# Altium footprint library MLACHQ_S.PCBLIB: 155 footprints (part 5 of 10)
Each footprint in its own frame and in the unit in brackets; x right, y up, seen from the top. Pads: shape width x height; smd on the part's side, far side on the other; paste and mask are expansions set on the pad; w line width, h text height; cw(c..) or ccw(c..) is an arc to the next point about the centre after c.
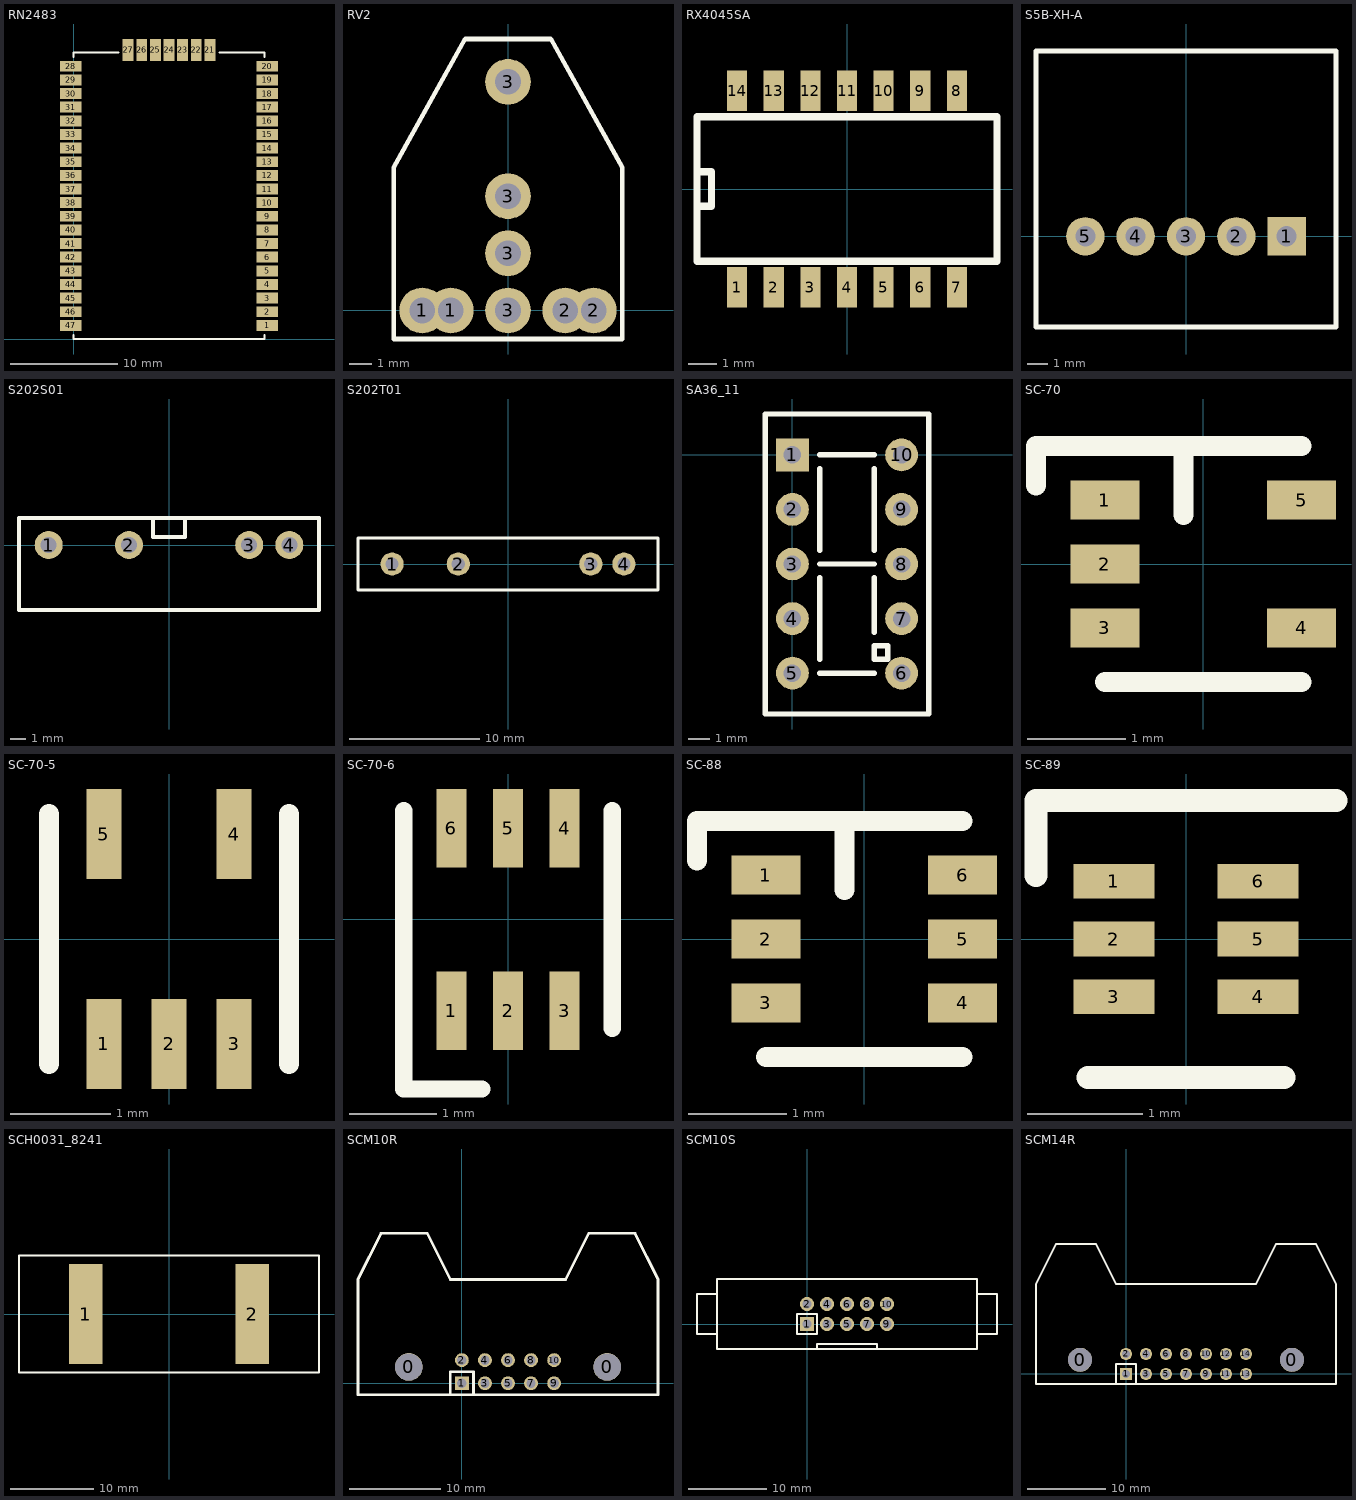
[diagram p4: the footprints below, top view; thin cyan lines are the x and y axes]

## RN2483 [mil]
pads (47):
  rect 80x40 smd mask+3.94: 1(710,50) 2(710,100) 3(710,150) 4(710,200) 5(710,250) 6(710,300) 7(710,350) 8(710,400) 9(710,450) 10(710,500) 11(710,550) 12(710,600) 13(710,650) 14(710,700) 15(710,750) 16(710,800) 17(710,850) 18(710,900) 19(710,950) 20(710,1000) 28(-10,1000) 29(-10,950) 30(-10,900) 31(-10,850) 32(-10,800) 33(-10,750) 34(-10,700) 35(-10,650) 36(-10,600) 37(-10,550) 38(-10,500) 39(-10,450) 40(-10,400) 41(-10,350) 42(-10,300) 43(-10,250) 44(-10,200) 45(-10,150) 46(-10,100) 47(-10,50)
  rect 40x80 smd mask+3.94: 21(500,1060) 22(450,1060) 23(400,1060) 24(350,1060) 25(300,1060) 26(250,1060) 27(200,1060)
TopOverlay:
  lines w7.87: 0,15 0,0 700,0 700,15 ; 0,1035 0,1050 165,1050 ; 535,1050 700,1050 700,1035
3D body: height 131.5, standoff 3.94, extent 55.12,25.59 643.7,994.09
3D body: height 31.5, standoff 0, extent 0,0 700,1050

## RV2 [mil]
pads (8):
  round 80 hole 45: 1(-150,0) 1(-100,0) 2(100,0) 2(150,0) 3(0,0) 3(0,100) 3(0,200) 3(0,400)
TopOverlay:
  lines w8: -200,-50 -200,250 -75,475 75,475 200,250 200,-50 -200,-50

## RX4045SA [mm]
pads (14):
  rect 0.7x1.4 smd: 1(-3.81,-3.4) 2(-2.54,-3.4) 3(-1.27,-3.4) 4(0,-3.4) 5(1.27,-3.4) 6(2.54,-3.4) 7(3.81,-3.4) 8(3.81,3.4) 9(2.54,3.4) 10(1.27,3.4) 11(0,3.4) 12(-1.27,3.4) 13(-2.54,3.4) 14(-3.81,3.4)
TopOverlay:
  lines w0.254: -5.2,-0.6 -4.7,-0.6 -4.7,0.6 -5.2,0.6 ; -5.2,-2.5 5.2,-2.5 5.2,2.5 -5.2,2.5 -5.2,-2.5

## S5B-XH-A [mm]
pads (5):
  rect 1.9x1.9 hole 1: 1(5,0)
  round 1.9 hole 1: 2(2.5,0) 3(0,0) 4(-2.5,0) 5(-5,0)
TopOverlay:
  lines w0.25: -7.45,-4.5 -7.45,9.2 ; -7.45,-4.5 7.45,-4.5 7.45,9.2 -7.45,9.2 ; -7.45,-4.5 -7.45,9.2
3D body: height 0.2, standoff 0, extent -7.45,0.5 7.45,9.2
3D body: height 6.1, standoff 5.9, extent -7.45,0.5 7.45,9.2
3D body: height 6.1, standoff 3.8, extent 6.8,0.5 7.45,9.2
3D body: height 6.1, standoff 3.8, extent -7.45,0.5 -6.8,9.2
3D body: height 6.1, standoff 0, extent -6.8,0.5 6.8,1.35
3D body: height 3, standoff -2, extent -0.35,-0.35 0.35,0.35
3D body: height 3, standoff 2.3, extent -0.35,-0.35 0.35,8.6
3D body: height 3, standoff 2.3, extent -2.85,-0.35 -2.15,8.6
3D body: height 3, standoff -2, extent -2.85,-0.35 -2.15,0.35
3D body: height 3, standoff 2.3, extent -5.35,-0.35 -4.65,8.6
3D body: height 3, standoff -2, extent -5.35,-0.35 -4.65,0.35
3D body: height 3, standoff 2.3, extent 2.15,-0.35 2.85,8.6
3D body: height 3, standoff -2, extent 2.15,-0.35 2.85,0.35
3D body: height 3, standoff 2.3, extent 4.65,-0.35 5.35,8.6
3D body: height 3, standoff -2, extent 4.65,-0.35 5.35,0.35
3D body: height 4, standoff 0, extent -7.45,-4.5 -6.8,9.2
3D body: height 4, standoff 0, extent 6.8,-4.5 7.45,9.2

## S202S01 [mil]
pads (4):
  round 70 hole 40: 1(-300,0) 2(-100,0) 3(200,0) 4(300,0)
TopOverlay:
  lines w10: -40,65 -40,20 40,20 40,65 ; -374.02,-161.42 -374.02,66.93 374.02,66.93 374.02,-161.42 -374.02,-161.42

## S202T01 [mil]
pads (4):
  round 70 hole 40: 1(-350,0) 2(-150,0) 3(250,0) 4(350,0)
TopOverlay:
  lines w10: -452.76,-78.74 -452.76,78.74 452.76,78.74 452.76,-78.74 -452.76,-78.74

## SA36_11 [mil]
pads (10):
  rect 60x60 hole 32: 1(0,0)
  round 60 hole 32: 2(0,-100) 3(0,-200) 4(0,-300) 5(0,-400) 6(200,-400) 7(200,-300) 8(200,-200) 9(200,-100) 10(200,0)
TopOverlay:
  lines w10: 50,-400 150,-400 ; 50,-375 50,-225 ; 50,-200 150,-200 ; 50,-175 50,-25 ; 50,0 150,0 ; 150,-325 150,-225 ; 150,-175 150,-25 ; -50,-475 250,-475 250,75 -50,75 -50,-475 ; 150,-375 175,-375 175,-350 150,-350 150,-375

## SC-70 [mm]
pads (5):
  rect 0.7x0.4 smd mask+0.2: 1(-1,0.65) 2(-1,0) 3(-1,-0.65) 4(1,-0.65) 5(1,0.65)
TopOverlay:
  lines w0.203: -1.7,0.8 -1.7,1.2 -1,1.2 1,1.2 ; -1,-1.2 1,-1.2 ; -0.2,0.5 -0.2,1.2

## SC-70-5 [mm]
pads (5):
  rect 0.35x0.9 smd mask+0.15: 1(-0.65,-1.05) 2(0,-1.05) 3(0.65,-1.05)
  rect 0.35x0.9 smd: 4(0.65,1.05) 5(-0.65,1.05)
TopOverlay:
  lines w0.2: -1.2,-1.25 -1.2,1.25 ; 1.2,-1.25 1.2,1.25
3D body: height 0.8, standoff 0, extent -0.8,0.65 -0.5,0.85
3D body: height 0.2, standoff 0, extent -0.8,0.65 -0.5,1.05
3D body: height 0.8, standoff 0, extent 0.5,0.65 0.8,0.85
3D body: height 0.2, standoff 0, extent 0.5,0.65 0.8,1.05
3D body: height 0.8, standoff 0, extent 0.5,-0.85 0.8,-0.65
3D body: height 0.2, standoff 0, extent 0.5,-1.05 0.8,-0.65
3D body: height 0.8, standoff 0, extent -0.8,-0.85 -0.5,-0.65
3D body: height 0.2, standoff 0, extent -0.8,-1.05 -0.5,-0.65
3D body: height 0.2, standoff 0, extent -0.15,-1.05 0.15,-0.65
3D body: height 0.8, standoff 0, extent -0.15,-0.85 0.15,-0.65
3D body: height 1.1, standoff 0, extent -1,-0.65 1,0.65

## SC-70-6 [mm]
pads (6):
  rect 0.35x0.9 smd mask+0.15: 1(-0.65,-1.05) 2(0,-1.05) 3(0.65,-1.05) 4(0.65,1.05) 5(0,1.05) 6(-0.65,1.05)
TopOverlay:
  lines w0.2: -1.2,1.25 -1.2,-1.95 -0.3,-1.95 ; 1.2,-1.25 1.2,1.25
3D body: height 0.2, standoff 0, extent -0.15,0.65 0.15,1.05
3D body: height 0.8, standoff 0, extent -0.15,0.65 0.15,0.85
3D body: height 1.1, standoff 0, extent -1,-0.65 1,0.65
3D body: height 0.8, standoff 0, extent -0.15,-0.85 0.15,-0.65
3D body: height 0.2, standoff 0, extent -0.15,-1.05 0.15,-0.65
3D body: height 0.2, standoff 0, extent -0.8,-1.05 -0.5,-0.65
3D body: height 0.8, standoff 0, extent -0.8,-0.85 -0.5,-0.65
3D body: height 0.2, standoff 0, extent 0.5,-1.05 0.8,-0.65
3D body: height 0.8, standoff 0, extent 0.5,-0.85 0.8,-0.65
3D body: height 0.2, standoff 0, extent 0.5,0.65 0.8,1.05
3D body: height 0.8, standoff 0, extent 0.5,0.65 0.8,0.85
3D body: height 0.2, standoff 0, extent -0.8,0.65 -0.5,1.05
3D body: height 0.8, standoff 0, extent -0.8,0.65 -0.5,0.85

## SC-88 [mm]
pads (6):
  rect 0.7x0.4 smd mask+0.2: 1(-1,0.65) 2(-1,0) 3(-1,-0.65) 4(1,-0.65) 5(1,0) 6(1,0.65)
TopOverlay:
  lines w0.203: -1.7,0.8 -1.7,1.2 -1,1.2 1,1.2 ; -1,-1.2 1,-1.2 ; -0.2,0.5 -0.2,1.2

## SC-89 [mm]
pads (6):
  rect 0.7x0.3 smd mask+0.2: 1(-0.625,0.5) 2(-0.625,0) 3(-0.625,-0.5) 4(0.625,-0.5) 5(0.625,0) 6(0.625,0.5)
TopOverlay:
  lines w0.2: -1.3,0.55 -1.3,1.2 1.3,1.2 ; -0.85,-1.2 0.85,-1.2
3D body: height 0.15, standoff 0, extent 0.6,0.4 0.8,0.6
3D body: height 0.15, standoff 0, extent 0.6,-0.1 0.8,0.1
3D body: height 0.15, standoff 0, extent 0.6,-0.6 0.8,-0.4
3D body: height 0.15, standoff 0, extent -0.8,-0.6 -0.6,-0.4
3D body: height 0.15, standoff 0, extent -0.8,-0.1 -0.6,0.1
3D body: height 0.15, standoff 0, extent -0.8,0.4 -0.6,0.6
3D body: height 0.6, standoff 0, extent -0.6,-0.85 0.6,0.85

## SCH0031_8241 [mm]
pads (2):
  rect 4x12 smd: 1(-10,0) 2(10,0)
TopOverlay:
  lines w0.254: -18,-7 18,-7 18,7 -18,7 -18,-7

## SCM10R [mil]
pads (12):
  round 120 hole 118: 0(-229.92,70.87) 0(629.92,70.87)
  rect 60x60 hole 40: 1(0,0)
  round 60 hole 40: 2(0,100) 3(100,0) 4(100,100) 5(200,0) 6(200,100) 7(300,0) 8(300,100) 9(400,0) 10(400,100)
TopOverlay:
  lines w12: -50,-50 -50,50 50,50 50,-50 ; -450,-50 850,-50 850,450 750,650 550,650 450,450 -50,450 -150,650 -350,650 -450,450 -450,-50

## SCM10S [mil]
pads (10):
  rect 70x70 hole 45: 1(0,0)
  round 70 hole 45: 2(0,100) 3(100,0) 4(100,100) 5(200,0) 6(200,100) 7(300,0) 8(300,100) 9(400,0) 10(400,100)
TopOverlay:
  lines w10: -450,-50 -550,-50 -550,150 -450,150 ; 50,-125 50,-100 350,-100 350,-125 ; 850,-50 950,-50 950,150 850,150 ; -450,-125 -450,225 850,225 850,-125 -450,-125 ; -50,-50 50,-50 50,50 -50,50 -50,-50

## SCM14R [mil]
pads (16):
  round 120 hole 118: 0(-229.92,70.87) 0(829.92,70.87)
  rect 60x60 hole 40: 1(0,0)
  round 60 hole 40: 2(0,100) 3(100,0) 4(100,100) 5(200,0) 6(200,100) 7(300,0) 8(300,100) 9(400,0) 10(400,100) 11(500,0) 12(500,100) 13(600,0) 14(600,100)
TopOverlay:
  lines w12: -50,-50 -50,50 50,50 50,-50 ; -450,-50 1050,-50 1050,450 950,650 750,650 650,450 -50,450 -150,650 -350,650 -450,450 -450,-50